# EAGLE library part NACHTELK_HEADERCONNECTORS_2X3 (library NachtElk_HeaderConnectors)
Nacht Elk. - Header Connectors Ekrem Turan Fırat Nacht Elk. - Header Connectors 2x3 Female or Male Pin Spacing: 2.54mm Mount Type: DIP Operating Temperature: -40°C up to 105°C 17.02.2022
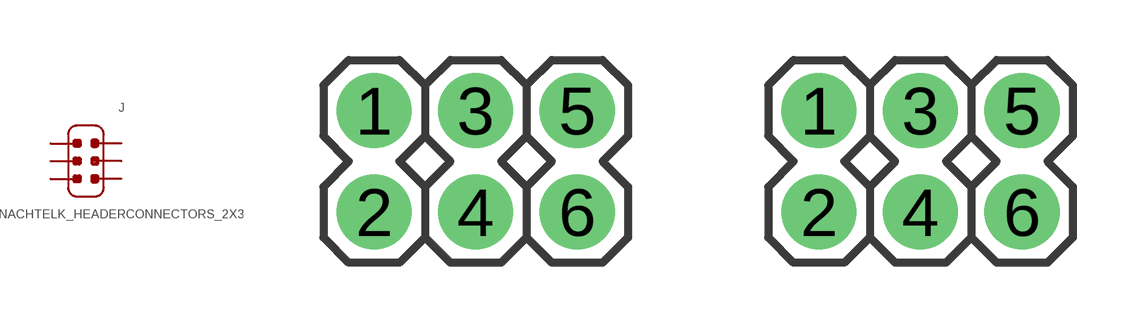
[diagram p15: symbol with the pads of HEADER_2X3; footprints HEADER_2X3, HEADER_2X3F]

Designator prefix J

## NACHTELK_HEADERCONNECTORS_2X3_MALE (MOUNT-TYPE: DIP; TEMPERATURE: -40°C up to 105°C; TYPE: Male; VALUE: 2X3)  [HEADER_2X3]
1  1
2  2
3  3
4  4
5  5
6  6

## NACHTELK_HEADERCONNECTORS_2X3_FEMALE (MOUNT-TYPE: DIP; TEMPERATURE: -40°C up to 105°C; TYPE: Female; VALUE: 2X3)  [HEADER_2X3F]
Pads as for HEADER_2X3

## Footprint HEADER_2X3 (pad centres in mm)
Nacht Elk. - Header Connectors Ekrem Turan Fırat 17.02.2022
drill 1.016 pad 1.88: 1 0,0; 2 0,-2.54; 3 2.54,0; 4 2.54,-2.54; 5 5.08,0; 6 5.08,-2.54

## Footprint HEADER_2X3F (pad centres in mm)
Nacht Elk. - Header Connectors Ekrem Turan Fırat 17.02.2022
drill 1.016 pad 1.88: 1 0,0; 2 0,-2.54; 3 2.54,0; 4 2.54,-2.54; 5 5.08,0; 6 5.08,-2.54